# Altium footprint library MH2029-300Y.PcbLib: 1 footprints
Each footprint in its own frame and in the unit in brackets; x right, y up, seen from the top. Pads: shape width x height; smd on the part's side, far side on the other; paste and mask are expansions set on the pad; w line width, h text height; cw(c..) or ccw(c..) is an arc to the next point about the centre after c.
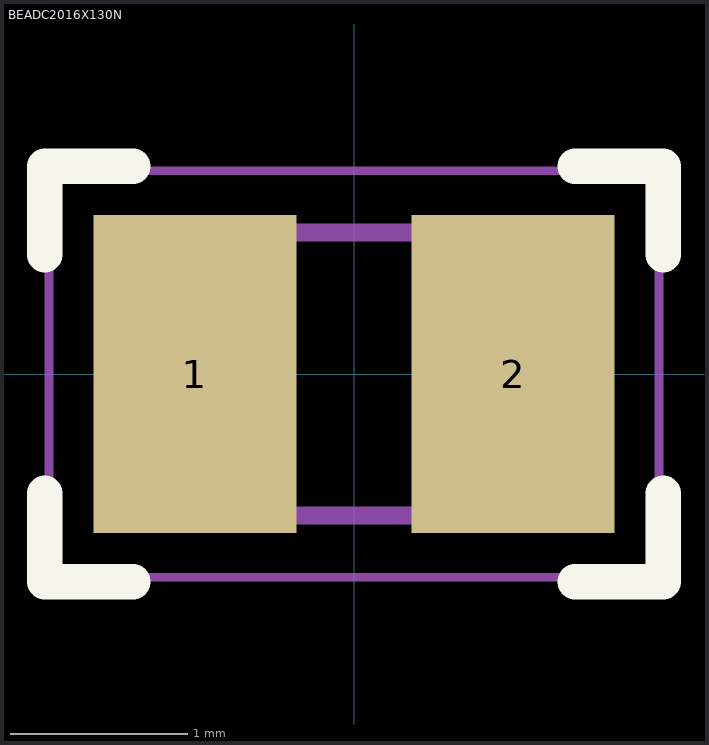
[diagram p0: the footprint, top view; thin cyan lines are the x and y axes]

## BEADC2016X130N [mm]
pads (2):
  rect 1.15x1.8 smd: 1(-0.9,0) 2(0.9,0)
Top Overlay:
  lines w0.2: -1.75,-0.675 -1.75,-1.175 -1.25,-1.175 ; -1.75,0.675 -1.75,1.175 -1.25,1.175 ; 1.25,-1.175 1.75,-1.175 1.75,-0.675 ; 1.25,1.175 1.75,1.175 1.75,0.675
Mechanical 13:
  lines w0.1: -1,-0.8 -1,0.8 1,0.8 1,-0.8 -1,-0.8
Mechanical 15:
  lines w0.05: -1.725,-1.15 -1.725,1.15 1.725,1.15 1.725,-1.15 -1.725,-1.15
3D body "MH2029-300Y.stp": height 1.3, standoff 0, extent -1,-0.8 1,0.8